# EAGLE library part DRV8846 (library bw_motor_driver)
TI DRV8846 Motor Controller
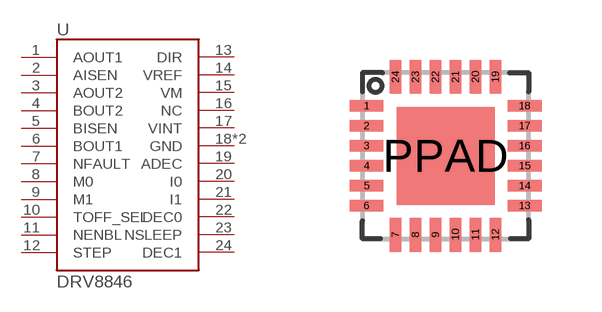
[diagram p0: symbol with the pads of VQFN6; footprint VQFN6]

Designator prefix U

## DRV8846RGER  [VQFN6]
1  AOUT1  out
2  AISEN  out
3  AOUT2  out
4  BOUT2  out
5  BISEN  out
6  BOUT1  out
7  NFAULT
8  M0  in
9  M1  in
10  TOFF_SEL  in
11  NENBL  in
12  STEP  in
13  DIR  in
14  VREF  in
15  VM  pwr
16  NC  nc
17  VINT
18  GND  pwr
19  ADEC  in
20  I0  in
21  I1  in
22  DEC0  in
23  NSLEEP  in
24  DEC1  in
PPAD  GND  pwr

## Footprint VQFN6 (pad centres in mm)
VQFN with 28 pins
smd 0.85 x 0.28: 1 -1.975,1.25; 2 -1.975,0.75; 3 -1.975,0.25; 4 -1.975,-0.25; 5 -1.975,-0.75; 6 -1.975,-1.25; 13 1.975,-1.25; 14 1.975,-0.75; 15 1.975,-0.25; 16 1.975,0.25; 17 1.975,0.75; 18 1.975,1.25
smd 0.28 x 0.85: 7 -1.25,-1.975; 8 -0.75,-1.975; 9 -0.25,-1.975; 10 0.25,-1.975; 11 0.75,-1.975; 12 1.25,-1.975; 19 1.25,1.975; 20 0.75,1.975; 21 0.25,1.975; 22 -0.25,1.975; 23 -0.75,1.975; 24 -1.25,1.975
smd 2.45 x 2.45: PPAD 0,0